# Altium footprint library SI60118F.PcbLib: 1 footprints
Each footprint in its own frame and in the unit in brackets; x right, y up, seen from the top. Pads: shape width x height; smd on the part's side, far side on the other; paste and mask are expansions set on the pad; w line width, h text height; cw(c..) or ccw(c..) is an arc to the next point about the centre after c.
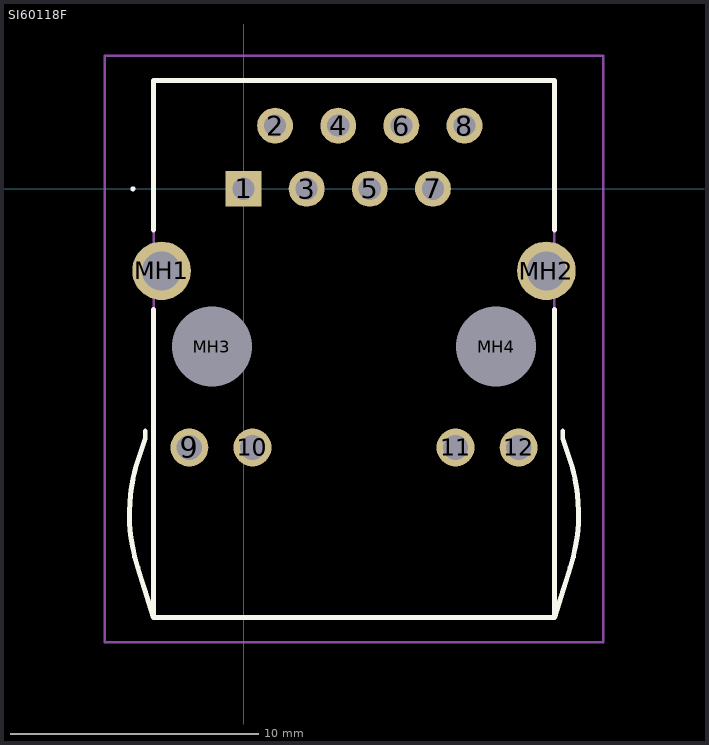
[diagram p0: the footprint, top view; thin cyan lines are the x and y axes]

## SI60118F [mm]
pads (16):
  rect 1.446x1.446 hole 0.89: 1(0,0)
  round 1.446 hole 0.89: 2(1.27,2.54) 3(2.54,0) 4(3.81,2.54) 5(5.08,0) 6(6.35,2.54) 7(7.62,0) 8(8.89,2.54)
  round 1.53 hole 1.02: 9(-2.18,-10.41) 10(0.36,-10.41) 11(8.53,-10.41) 12(11.07,-10.41)
  round 2.355 hole 1.57: MH1(-3.3,-3.3) MH2(12.19,-3.3)
  round 1.607 hole 3.215 unplated: MH3(-1.27,-6.35) MH4(10.16,-6.35)
Top Overlay:
  lines w0.1: -4.5,0 ccw(c-4.45,0) -4.4,0 ccw(c-4.45,0) -4.5,0
  lines w0.2: -4.355,-11.25 -3.955,-10.05 -3.955,-9.75 ; -4.353,-11.244 ccw(c2.586,-13.077) -4.256,-15.248 ; -4.255,-15.25 -3.62,-17.25 ; -3.62,-4.85 -3.62,-17.25 ; -3.62,-1.65 -3.62,4.35 12.51,4.35 12.51,-1.65 ; 12.51,-4.85 12.51,-17.25 ; 12.845,-9.75 12.845,-10.05 13.245,-11.25 ; 13.145,-15.25 12.51,-17.25 ; 13.146,-15.248 ccw(c6.304,-13.077) 13.243,-11.244 ; -3.62,-17.25 12.51,-17.25
Mechanical 15:
  lines w0.1: -4.355,-11.25 -3.955,-10.05 -3.955,-9.75 ; -4.353,-11.244 ccw(c2.586,-13.077) -4.256,-15.248 ; -4.255,-15.25 -3.62,-17.25 ; 12.845,-9.75 12.845,-10.05 13.245,-11.25 ; 13.145,-15.25 12.51,-17.25 ; 13.146,-15.248 ccw(c6.304,-13.077) 13.243,-11.244 ; -3.62,-17.25 -3.62,4.34 12.51,4.34 12.51,-17.25 ; -3.62,-17.25 12.51,-17.25
Mechanical 20:
  lines w0.1: -5.592,-18.25 -5.592,5.35 14.482,5.35 14.482,-18.25 -5.592,-18.25
3D body "SI-60118-F.stp": height 15.57, standoff -3.12, extent -5.055,-17.399 13.945,4.191